# EAGLE library part FLEX7 (library wheat)
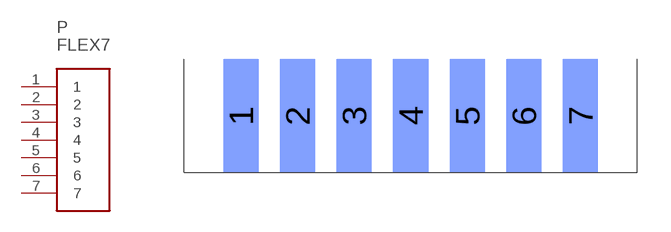
[diagram p289: symbol with the pads of FLEX7; footprint FLEX7]

Designator prefix P

## FLEX7  [FLEX7]
1  1
2  2
3  3
4  4
5  5
6  6
7  7

## Footprint FLEX7 (pad centres in mm)
smd 1.575 x 5.08 bottom: 1 -7.62,2.54; 2 -5.08,2.54; 3 -2.54,2.54; 4 0,2.54; 5 2.54,2.54; 6 5.08,2.54; 7 7.62,2.54